# EAGLE library part 61001411921 (library Wuerth_Elektronik_eiCan_Pin_&_Socked_Headers_v1.3)
WR-PHD 2.54mm SMT Socket Header, 14 Pins
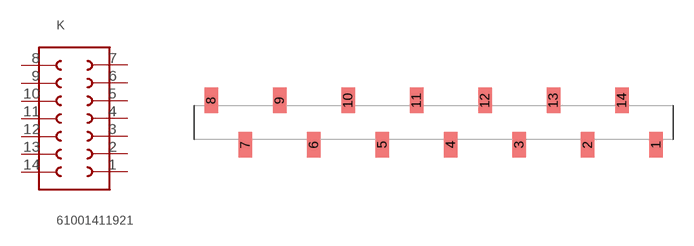
[diagram p236: symbol with the pads of 61001411921; footprint 61001411921]

Designator prefix K

## 61001411921  [61001411921]
1  8  pas
2  9  pas
3  10  pas
4  11  pas
5  12  pas
6  13  pas
7  14  pas
8  1  pas
9  2  pas
10  3  pas
11  4  pas
12  5  pas
13  6  pas
14  7  pas

## Footprint 61001411921 (pad centres in mm)
WR-PHD 2.54mm SMT Socket Header, 14 Pins
smd 1 x 1.91: 1 16.51,-1.645; 2 11.43,-1.645; 3 6.35,-1.645; 4 1.27,-1.645; 5 -3.81,-1.645; 6 -8.89,-1.645; 7 -13.97,-1.645; 8 -16.51,1.645; 9 -11.43,1.645; 10 -6.35,1.645; 11 -1.27,1.645; 12 3.81,1.645; 13 8.89,1.645; 14 13.97,1.645